# Altium footprint library GRPB052VWQS-RC.PcbLib: 1 footprints
Each footprint in its own frame and in the unit in brackets; x right, y up, seen from the top. Pads: shape width x height; smd on the part's side, far side on the other; paste and mask are expansions set on the pad; w line width, h text height; cw(c..) or ccw(c..) is an arc to the next point about the centre after c.
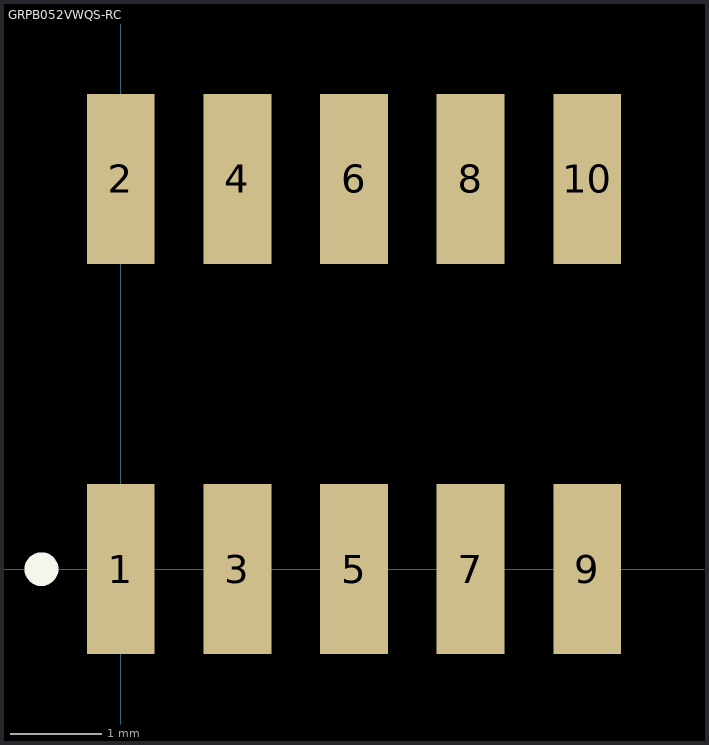
[diagram p0: the footprint, top view; thin cyan lines are the x and y axes]

## GRPB052VWQS-RC [mm] "10p 1.27mm surface mount male header"
pads (10):
  rect 0.74x1.85 smd: 1(0,0) 2(0,4.25) 3(1.27,0) 4(1.27,4.25) 5(2.54,0) 6(2.54,4.25) 7(3.81,0) 8(3.81,4.25) 9(5.08,0) 10(5.08,4.25)
Top Overlay:
  circle w0.254: c-0.864,0 r0.057